# Altium schematic symbol library IC芯片.SchLib: 82 symbols
Pins are listed as number, name and electrical type; pins without a type are passive.

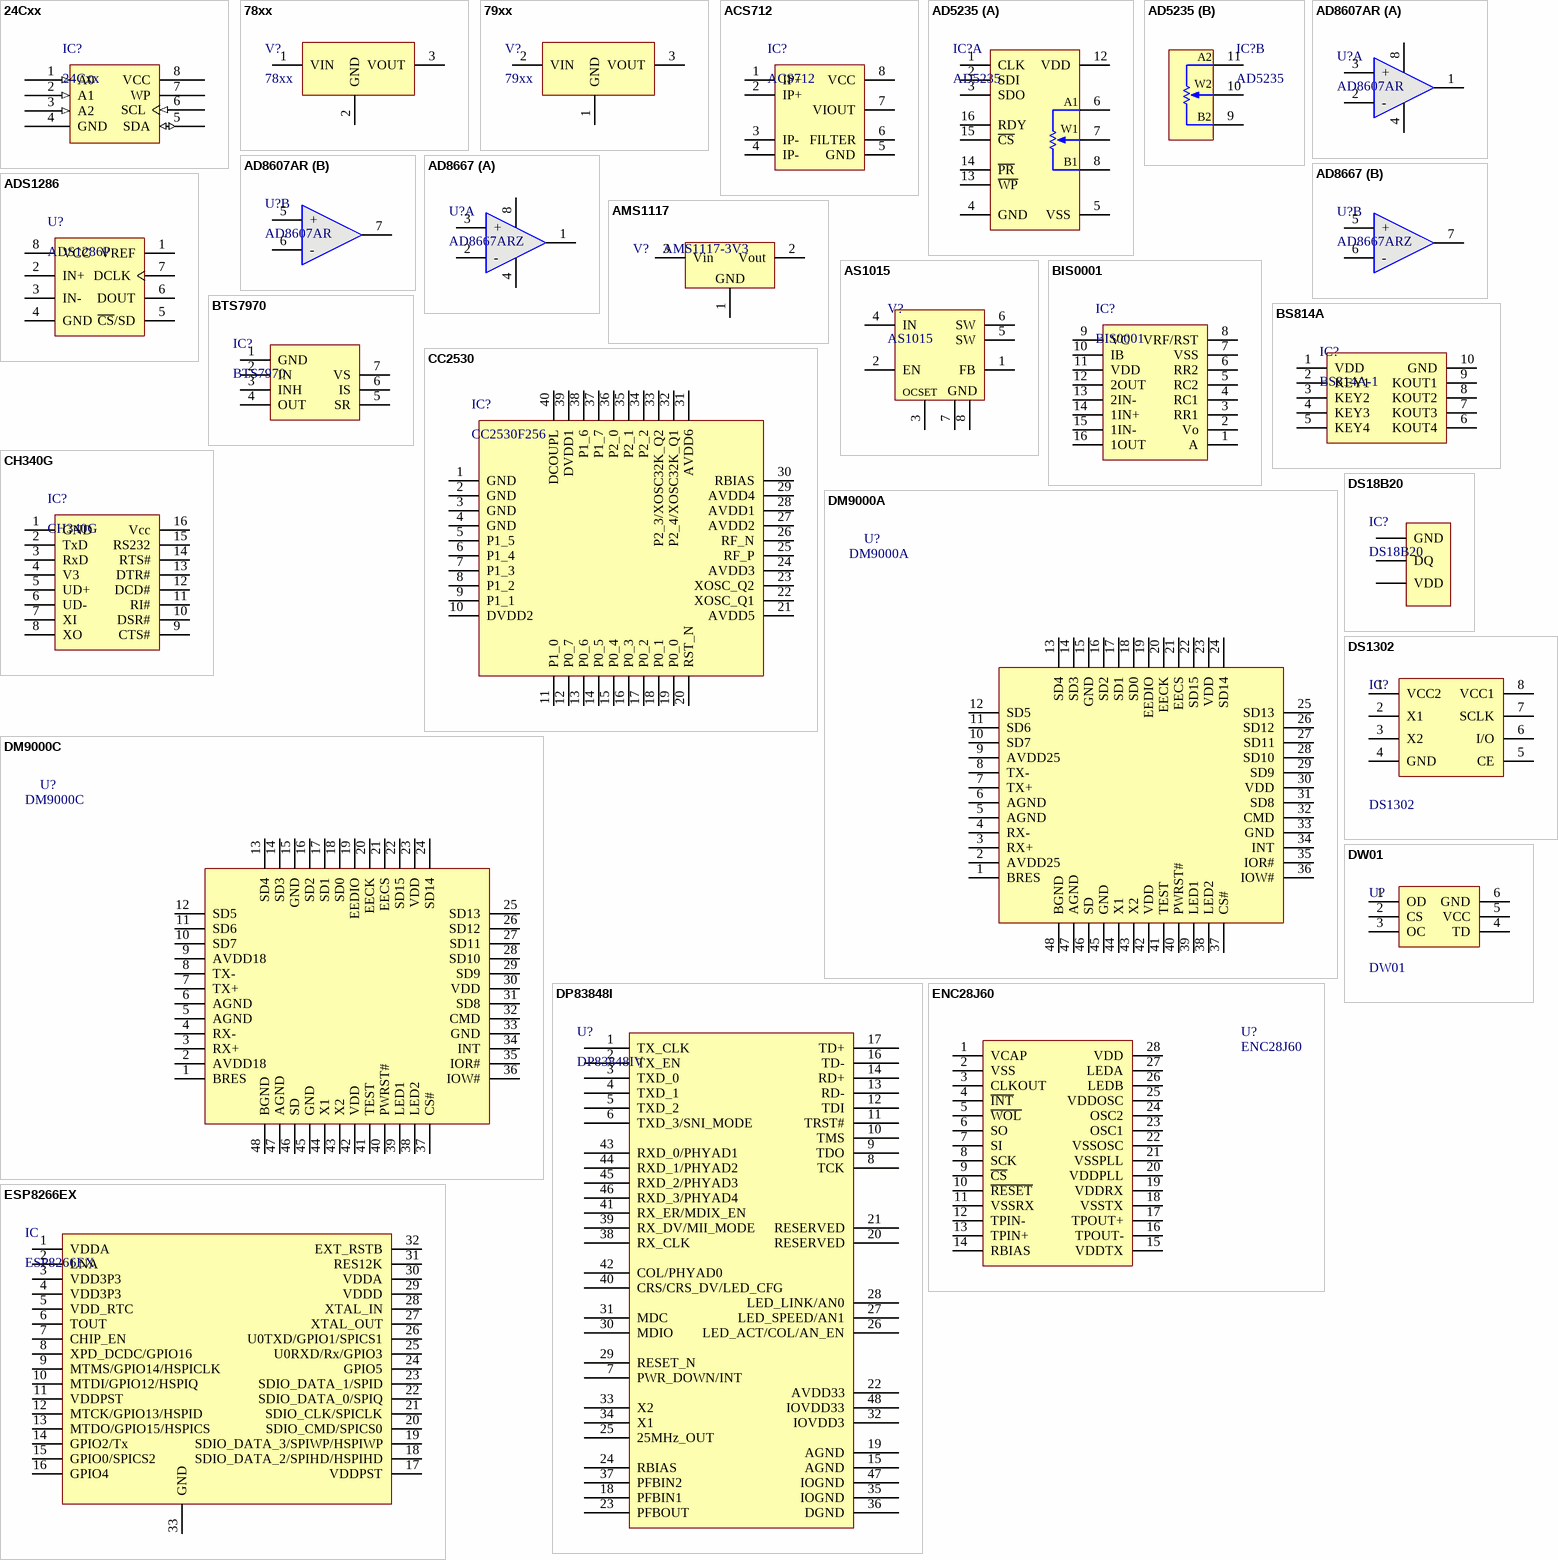
[diagram p0: symbols 24Cxx to ESP8266EX]

## 24Cxx
designator IC?
外置EEPROM; 版权归属: 源创客; BOM名称: 外置EEPROM; 学习资源: www.ooocke.com
footprint SOP8_L (5*6*1.8mm（长宽高）)
footprint SOP8_N (5*6*1.8mm（长宽高）)
footprint SOP8_M (5*6*1.8mm（长宽高）)
pins: 1 A0 (in), 2 A1 (in), 3 A2 (in), 4 GND, 5 SDA (io), 6 SCL (in), 7 WP, 8 VCC (power)

## 78xx
designator V?
线性稳压芯片; 版权归属: 源创客; BOM名称: 线性稳压芯片; 学习资源: www.ooocke.com
footprint TO252 (252晶体管)
footprint TO220A (220，3脚晶体管)
footprint TO220B (220，3脚晶体管)
pins: 1 VIN, 2 GND, 3 VOUT

## 79xx
designator V?
线性稳压芯片; 版权归属: 源创客; BOM名称: 线性稳压芯片; 学习资源: www.ooocke.com
footprint TO252 (252晶体管)
footprint TO220A (220，3脚晶体管)
footprint TO220B (220，3脚晶体管)
pins: 1 GND, 2 VIN, 3 VOUT

## ACS712
designator IC?
电流检测芯片; 版权归属: 源创客; BOM名称: 电流检测芯片; 学习资源: www.ooocke.com
footprint SOP8_N (5*6*1.8mm（长宽高）)
footprint SOP8_L (5*6*1.8mm（长宽高）)
footprint SOP8_M (5*6*1.8mm（长宽高）)
pins: 1 IP+, 2 IP+, 3 IP-, 4 IP-, 5 GND, 6 FILTER, 7 VIOUT, 8 VCC

## AD5235
designator IC?
数字电位器; 版权归属: 源创客; BOM名称: 数字电位器; 学习资源: www.ooocke.com
footprint TSSOP16_N (5*6.4*1mm（长宽高）)
footprint TSSOP16_L (5*6.4*1mm（长宽高）)
footprint TSSOP16_M (5*6.4*1mm（长宽高）)
part A pins: 1 CLK, 2 SDI, 3 SDO, 4 GND, 5 VSS, 6 A1, 7 W1, 8 B1, 12 VDD, 13 ~{WP}, 14 ~{PR}, 15 ~{CS}, 16 RDY
part B pins: 9 B2, 10 W2, 11 A2

## AD8607AR
designator U?
双运放; 版权归属: 源创客; BOM名称: 双运放; 学习资源: www.ooocke.com
footprint SOP8_N (5*6*1.8mm（长宽高）)
footprint SOP8_L (5*6*1.8mm（长宽高）)
footprint SOP8_M (5*6*1.8mm（长宽高）)
part A pins: 1 OUT1, 2 -, 3 +, 4 V- (power), 8 V+ (power)
part B pins: 5 +, 6 -, 7 OUT2

## AD8667
designator U?, comment AD8667ARZ
双运放; 版权归属: 源创客; BOM名称: 双运放; 学习资源: www.ooocke.com
footprint SOP8_N (5*6*1.8mm（长宽高）)
footprint SOP8_L (5*6*1.8mm（长宽高）)
footprint SOP8_M (5*6*1.8mm（长宽高）)
part A pins: 1 OUT1, 2 -, 3 +, 4 V- (power), 8 V+ (power)
part B pins: 5 +, 6 -, 7 OUT2

## ADS1286
designator U?, comment ADS1286P
12位数模转换芯片; 版权归属: 源创客; BOM名称: 12位数模转换芯片; 学习资源: www.ooocke.com
footprint SOP8_L (5*6*1.8mm（长宽高）)
footprint SOP8_M (5*6*1.8mm（长宽高）)
footprint SOP8_N (5*6*1.8mm（长宽高）)
footprint DIP8-300 (9.4*7.6*3.8(长宽高）)
footprint DIP8-300_MH (带底座 9.4*7.6*3.8(长宽高）)
pins: 1 VREF, 2 IN+, 3 IN-, 4 GND, 5 ~{CS}/SD, 6 DOUT, 7 DCLK, 8 VCC

## AMS1117
designator V?, comment AMS1117-3V3
三端稳压芯片; BOM名称: 稳压芯片; 版权归属: 源创客; 学习资源: www.ooocke.com
footprint SOT223_L (6.4x7x1.6mm(长宽高))
footprint SOT223_M (6.4x7x1.6mm(长宽高))
footprint SOT223_N (6.4x7x1.6mm(长宽高))
footprint SOT89_L (4.6x4.3x1.6mm(长宽高))
footprint SOT89_N (4.6x4.3x1.6mm(长宽高))
footprint SOT89_M (4.6x4.3x1.6mm(长宽高))
pins: 1 GND, 2 Vout, 3 Vin

## AS1015
designator V?
可调升压芯片; 版权归属: 源创客; BOM名称: 可调升压芯片; 学习资源: www.ooocke.com
footprint SOP8_N (5*6*1.8mm（长宽高）)
footprint SOP8_L (5*6*1.8mm（长宽高）)
footprint SOP8_M (5*6*1.8mm（长宽高）)
pins: 1 FB (power), 2 EN (power), 3 OCSET (power), 4 IN (power), 5 SW (power), 6 SW (power), 7 GND (power), 8 GND (power)

## BIS0001
designator IC?
人体红外专用芯片; 版权归属: 源创客; BOM名称: BIS0001; 学习资源: www.ooocke.com
footprint SOP16_N (10.3*6.2*1.8mm（长宽高）)
footprint SOP16_L (10.3*6.2*1.8mm（长宽高）)
footprint SOP16_M (10.3*6.2*1.8mm（长宽高）)
pins: 1 A, 2 Vo, 3 RR1, 4 RC1, 5 RC2, 6 RR2, 7 VSS, 8 VRF/RST, 9 VC, 10 IB, 11 VDD, 12 2OUT, 13 2IN-, 14 1IN+, 15 1IN-, 16 1OUT

## BS814A
designator IC?, comment BS814A-1
4键电容触摸按键芯片; 版权归属: 源创客; BOM名称: 4键电容触摸按键芯片; 学习资源: www.ooocke.com
footprint MSOP10_L (塑封体长3mm，宽3mm，脚距0.5)
footprint MSOP10_N (塑封体长3mm，宽3mm，脚距0.5)
footprint MSOP10_M (塑封体长3mm，宽3mm，脚距0.5)
pins: 1 VDD, 2 KEY1, 3 KEY2, 4 KEY3, 5 KEY4, 6 KOUT4, 7 KOUT3, 8 KOUT2, 9 KOUT1, 10 GND

## BTS7970
designator IC?
电机驱动芯片; 版权归属: 源创客; BOM名称: 电机驱动芯片; 学习资源: www.ooocke.com
footprint TO263-7A (263，7脚晶体管)
footprint TO263-7B (263，7脚晶体管)
pins: 1 GND (power), 2 IN (power), 3 INH (power), 4 OUT (power), 5 SR (power), 6 IS (power), 7 VS (power)

## CC2530
designator IC?, comment CC2530F256
ZigBee2.4G无线组网芯片; 版权归属: 源创客; BOM名称: ZigBee2.4G无线组网芯片; 学习资源: www.ooocke.com
footprint QFN40 6X6_L (40脚，体宽：6x6mm，脚距：0.5mm)
footprint QFN40 6X6_M (40脚，体宽：6x6mm，脚距：0.5mm)
footprint QFN40 6X6_N (40脚，体宽：6x6mm，脚距：0.5mm)
pins: 1 GND, 2 GND, 3 GND, 4 GND, 5 P1_5, 6 P1_4, 7 P1_3, 8 P1_2, 9 P1_1, 10 DVDD2, 11 P1_0, 12 P0_7, 13 P0_6, 14 P0_5, 15 P0_4, 16 P0_3, 17 P0_2, 18 P0_1, 19 P0_0, 20 RST_N, 21 AVDD5, 22 XOSC_Q1, 23 XOSC_Q2, 24 AVDD3, 25 RF_P, 26 RF_N, 27 AVDD2, 28 AVDD1, 29 AVDD4, 30 RBIAS, 31 AVDD6, 32 P2_4/XOSC32K_Q1, 33 P2_3/XOSC32K_Q2, 34 P2_2, 35 P2_1, 36 P2_0, 37 P1_7, 38 P1_6, 39 DVDD1, 40 DCOUPL

## CH340G
designator IC?
串口转USB; 版权归属: 源创客; BOM名称: 串口转USB; 学习资源: www.ooocke.com
footprint SOP16_L (10.3*6.2*1.8mm（长宽高）)
footprint SOP16_N (10.3*6.2*1.8mm（长宽高）)
footprint SOP16_M (10.3*6.2*1.8mm（长宽高）)
footprint DIP16-300 (19.3*7.6*3.8(长宽高）)
pins: 1 GND, 2 TxD, 3 RxD, 4 V3, 5 UD+, 6 UD-, 7 XI, 8 XO, 9 CTS#, 10 DSR#, 11 RI#, 12 DCD#, 13 DTR#, 14 RTS#, 15 RS232, 16 Vcc

## DM9000A
designator U?
网络芯片; 版权归属: 源创客; BOM名称: 网络芯片; 学习资源: www.ooocke.com
footprint LQFP48 7X7_N (48脚，体宽7x7mm，脚距0.5mm)
footprint LQFP48 7X7_L (48脚，体宽7x7mm，脚距0.5mm)
footprint LQFP48 7X7_M (48脚，体宽7x7mm，脚距0.5mm)
pins: 1 BRES, 2 AVDD25, 3 RX+, 4 RX-, 5 AGND, 6 AGND, 7 TX+, 8 TX-, 9 AVDD25, 10 SD7, 11 SD6, 12 SD5, 13 SD4, 14 SD3, 15 GND, 16 SD2, 17 SD1, 18 SD0, 19 EEDIO, 20 EECK, 21 EECS, 22 SD15, 23 VDD, 24 SD14, 25 SD13, 26 SD12, 27 SD11, 28 SD10, 29 SD9, 30 VDD, 31 SD8, 32 CMD, 33 GND, 34 INT, 35 IOR#, 36 IOW#, 37 CS#, 38 LED2, 39 LED1, 40 PWRST#, 41 TEST, 42 VDD, 43 X2, 44 X1, 45 GND, 46 SD, 47 AGND, 48 BGND

## DM9000C
designator U?
网络芯片; 版权归属: 源创客; BOM名称: 网络芯片; 学习资源: www.ooocke.com
footprint LQFP48 7X7_N (48脚，体宽7x7mm，脚距0.5mm)
footprint LQFP48 7X7_L (48脚，体宽7x7mm，脚距0.5mm)
footprint LQFP48 7X7_M (48脚，体宽7x7mm，脚距0.5mm)
pins: 1 BRES, 2 AVDD18, 3 RX+, 4 RX-, 5 AGND, 6 AGND, 7 TX+, 8 TX-, 9 AVDD18, 10 SD7, 11 SD6, 12 SD5, 13 SD4, 14 SD3, 15 GND, 16 SD2, 17 SD1, 18 SD0, 19 EEDIO, 20 EECK, 21 EECS, 22 SD15, 23 VDD, 24 SD14, 25 SD13, 26 SD12, 27 SD11, 28 SD10, 29 SD9, 30 VDD, 31 SD8, 32 CMD, 33 GND, 34 INT, 35 IOR#, 36 IOW#, 37 CS#, 38 LED2, 39 LED1, 40 PWRST#, 41 TEST, 42 VDD, 43 X2, 44 X1, 45 GND, 46 SD, 47 AGND, 48 BGND

## DP83848I
designator U?, comment DP83848IV
网络芯片; 版权归属: 源创客; BOM名称: 网络芯片; 学习资源: www.ooocke.com
footprint LQFP48 7X7_N (48脚，体宽7x7mm，脚距0.5mm)
footprint LQFP48 7X7_L (48脚，体宽7x7mm，脚距0.5mm)
footprint LQFP48 7X7_M (48脚，体宽7x7mm，脚距0.5mm)
pins: 1 TX_CLK, 2 TX_EN, 3 TXD_0, 4 TXD_1, 5 TXD_2, 6 TXD_3/SNI_MODE, 7 PWR_DOWN/INT, 8 TCK, 9 TDO, 10 TMS, 11 TRST#, 12 TDI, 13 RD-, 14 RD+, 15 AGND, 16 TD-, 17 TD+, 18 PFBIN1, 19 AGND, 20 RESERVED, 21 RESERVED, 22 AVDD33, 23 PFBOUT, 24 RBIAS, 25 25MHz_OUT, 26 LED_ACT/COL/AN_EN, 27 LED_SPEED/AN1, 28 LED_LINK/AN0, 29 RESET_N, 30 MDIO, 31 MDC, 32 IOVDD3, 33 X2, 34 X1, 35 IOGND, 36 DGND, 37 PFBIN2, 38 RX_CLK, 39 RX_DV/MII_MODE, 40 CRS/CRS_DV/LED_CFG, 41 RX_ER/MDIX_EN, 42 COL/PHYAD0, 43 RXD_0/PHYAD1, 44 RXD_1/PHYAD2, 45 RXD_2/PHYAD3, 46 RXD_3/PHYAD4, 47 IOGND, 48 IOVDD33

## DS18B20
designator IC?
数字温度计; 版权归属: 源创客; BOM名称: 数字温度计; 学习资源: www.ooocke.com
footprint TO92A (92晶体管)
footprint TO92B (92晶体管)
pins: 1 GND, 2 DQ, 3 VDD

## DS1302
designator IC?
实时时钟芯片; 版权归属: 源创客; BOM名称: 实时时钟芯片; 学习资源: www.ooocke.com
footprint SOP8_N (5*6*1.8mm（长宽高）)
footprint SOP8_L (5*6*1.8mm（长宽高）)
footprint SOP8_M (5*6*1.8mm（长宽高）)
footprint DIP8-300 (9.4*7.6*3.8(长宽高）)
pins: 1 VCC2, 2 X1, 3 X2, 4 GND, 5 CE, 6 I/O, 7 SCLK, 8 VCC1

## DW01
designator U?
锂电池过流保护IC; BOM名称: 过流保护IC; 版权归属: 源创客; 学习资源: www.ooocke.com
footprint SOT23-6L (3x1.6x1.1mm(长宽高))
footprint SOT23-6N (3x1.6x1.1mm(长宽高))
footprint SOT23-6M (3x1.6x1.1mm(长宽高))
pins: 1 OD, 2 CS, 3 OC, 4 TD, 5 VCC, 6 GND

## ENC28J60
designator U?
SPI以太网控制芯片; 版权归属: 源创客; BOM名称: SPI以太网控制芯片; 学习资源: www.ooocke.com
footprint SSOP28_N (10.2*7.8*1.9mm(长宽高）)
footprint SSOP28_L (10.2*7.8*1.9mm(长宽高）)
footprint SSOP28_M (10.2*7.8*1.9mm(长宽高）)
pins: 1 VCAP, 2 VSS, 3 CLKOUT, 4 ~{INT}, 5 ~{WOL}, 6 SO, 7 SI, 8 SCK, 9 ~{CS}, 10 ~{RESET}, 11 VSSRX, 12 TPIN-, 13 TPIN+, 14 RBIAS, 15 VDDTX, 16 TPOUT-, 17 TPOUT+, 18 VSSTX, 19 VDDRX, 20 VDDPLL, 21 VSSPLL, 22 VSSOSC, 23 OSC1, 24 OSC2, 25 VDDOSC, 26 LEDB, 27 LEDA, 28 VDD

## ESP8266EX
designator IC
WIFI-芯片; 版权归属: 源创客; BOM名称: WIFI-芯片; 学习资源: www.ooocke.com
footprint QFN32 5x5_L (32脚，长：5mm，宽：5mm，高：9.5mm)
footprint QFN32 5x5_M (32脚，长：5mm，宽：5mm，高：9.5mm)
footprint QFN32 5x5_N (32脚，长：5mm，宽：5mm，高：9.5mm)
pins: 1 VDDA, 2 LNA, 3 VDD3P3, 4 VDD3P3, 5 VDD_RTC, 6 TOUT, 7 CHIP_EN, 8 XPD_DCDC/GPIO16, 9 MTMS/GPIO14/HSPICLK, 10 MTDI/GPIO12/HSPIQ, 11 VDDPST, 12 MTCK/GPIO13/HSPID, 13 MTDO/GPIO15/HSPICS, 14 GPIO2/Tx, 15 GPIO0/SPICS2, 16 GPIO4, 17 VDDPST, 18 SDIO_DATA_2/SPIHD/HSPIHD, 19 SDIO_DATA_3/SPIWP/HSPIWP, 20 SDIO_CMD/SPICS0, 21 SDIO_CLK/SPICLK, 22 SDIO_DATA_0/SPIQ, 23 SDIO_DATA_1/SPID, 24 GPIO5, 25 U0RXD/Rx/GPIO3, 26 U0TXD/GPIO1/SPICS1, 27 XTAL_OUT, 28 XTAL_IN, 29 VDDD, 30 VDDA, 31 RES12K, 32 EXT_RSTB, 33 GND

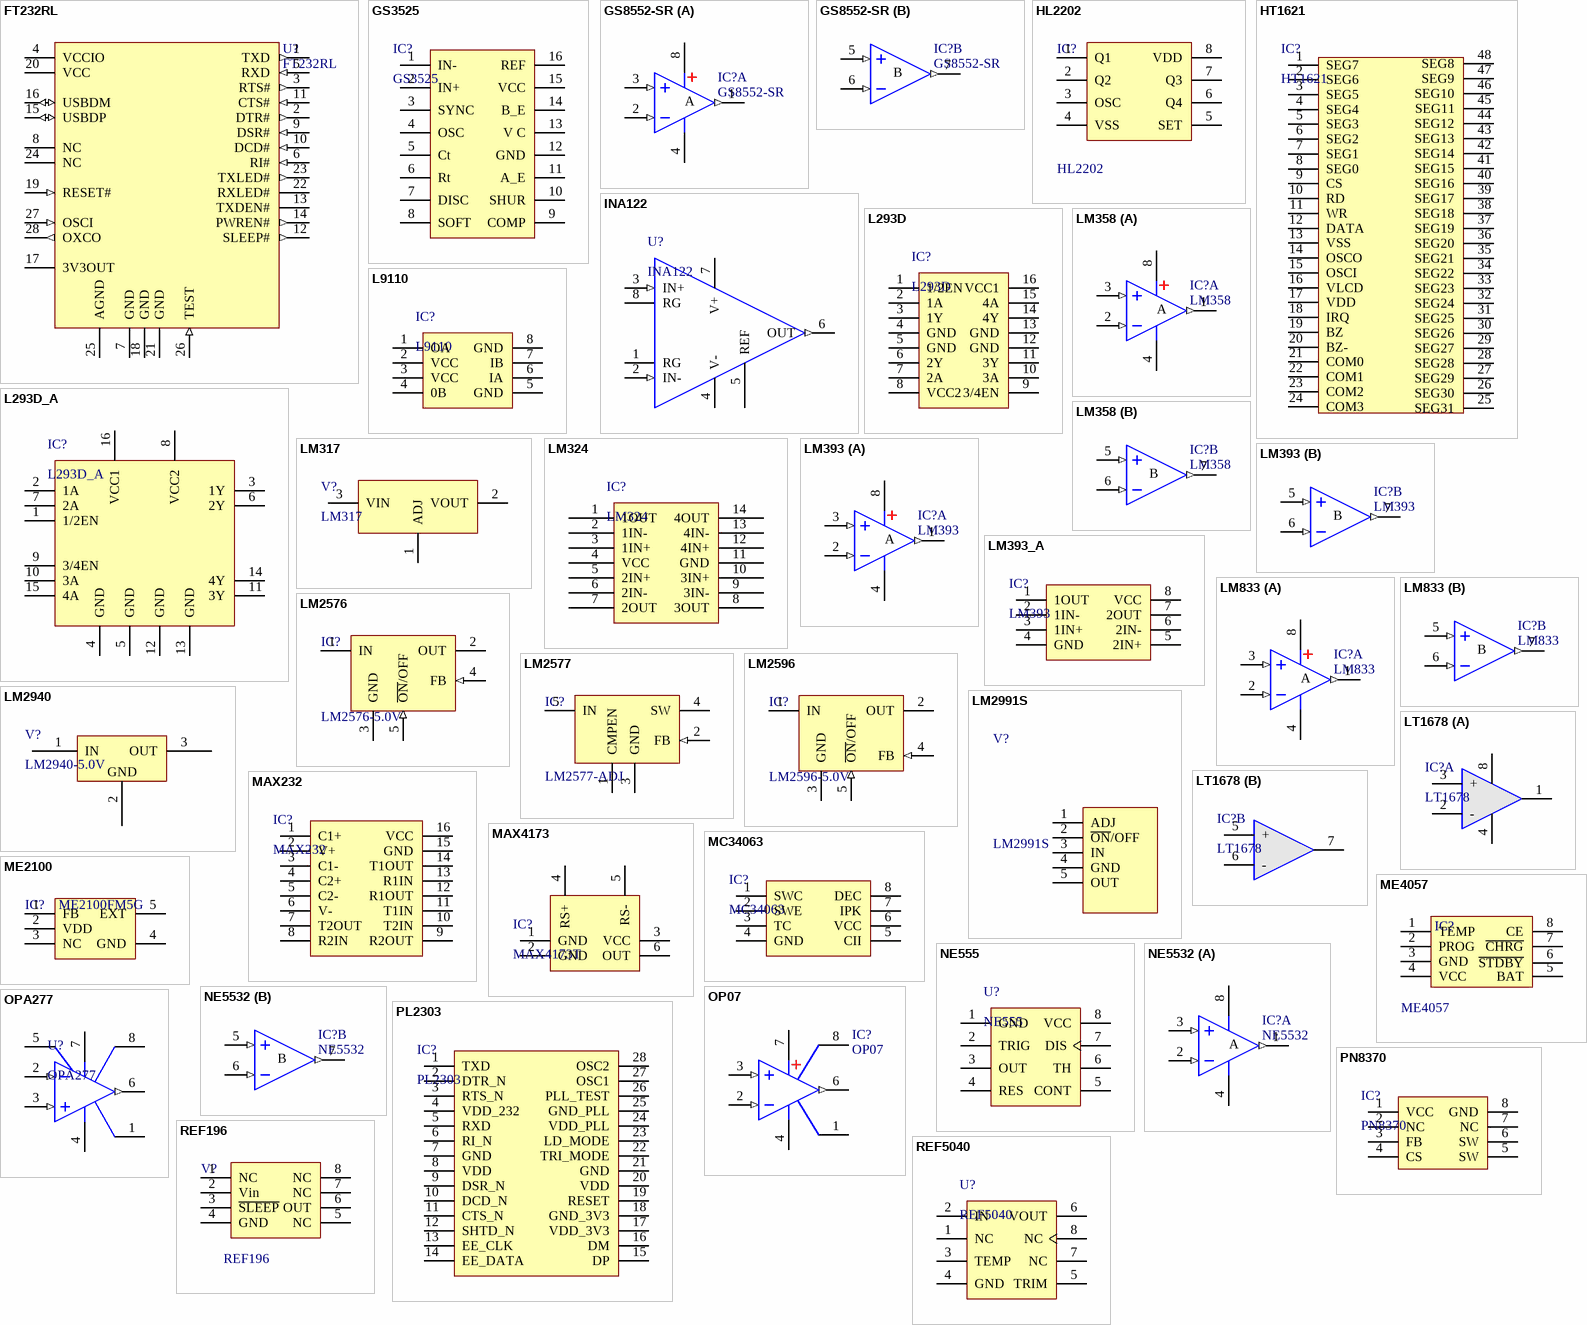
[diagram p1: symbols FT232RL to REF5040]

## FT232RL
designator U?
USB转串口; 版权归属: 源创客; BOM名称: USB转串口; 学习资源: www.ooocke.com
footprint SSOP28_N (10.2*7.8*1.9mm(长宽高）)
footprint SSOP28_L (10.2*7.8*1.9mm(长宽高）)
footprint SSOP28_M (10.2*7.8*1.9mm(长宽高）)
pins: 1 TXD (out), 2 DTR# (out), 3 RTS# (out), 4 VCCIO (power), 5 RXD (in), 6 RI# (in), 7 GND (power), 8 NC, 9 DSR# (in), 10 DCD# (in), 11 CTS# (in), 12 SLEEP# (out), 13 TXDEN# (oc), 14 PWREN# (out), 15 USBDP (io), 16 USBDM (io), 17 3V3OUT (power), 18 GND (power), 19 RESET# (in), 20 VCC (power), 21 GND (power), 22 RXLED# (oc), 23 TXLED# (out), 24 NC, 25 AGND (power), 26 TEST (in), 27 OSCI (in), 28 OXCO (out)

## GS3525
designator IC?
开关电源管理IC; BOM名称: 电源管理IC; 版权归属: 源创客; 学习资源: www.ooocke.com
footprint DIP16-300 (19.3*7.6*3.8(长宽高）)
footprint SOP16_L (10.3*6.2*1.8mm（长宽高）)
footprint SOP16_N (10.3*6.2*1.8mm（长宽高）)
footprint SOP16_M (10.3*6.2*1.8mm（长宽高）)
pins: 1 IN-, 2 IN+, 3 SYNC, 4 OSC, 5 Ct, 6 Rt, 7 DISC, 8 SOFT, 9 COMP, 10 SHUR, 11 A_E, 12 GND, 13 V C, 14 B_E, 15 VCC, 16 REF

## GS8552-SR
designator IC?
双路高精密运放; BOM名称: 双路运放; 版权归属: 源创客; 学习资源: www.ooocke.com
footprint SOP8_L (5*6*1.8mm（长宽高）)
footprint SOP8_N (5*6*1.8mm（长宽高）)
footprint SOP8_M (5*6*1.8mm（长宽高）)
footprint DIP8-300 (9.4*7.6*3.8(长宽高）)
part A pins: 1 OUT (out), 2 IN- (in), 3 IN+ (in), 4 V- (power), 8 V+ (power)
part B pins: 5 IN+ (in), 6 IN- (in), 7 OUT (out)
part A text: A
part B text: B

## HL2202
designator IC?
灯光控制芯片; 版权归属: 源创客; BOM名称: 灯光控制芯片; 学习资源: www.ooocke.com
footprint SOP8_N (5*6*1.8mm（长宽高）)
footprint SOP8_L (5*6*1.8mm（长宽高）)
footprint SOP8_M (5*6*1.8mm（长宽高）)
footprint DIP8-300 (9.4*7.6*3.8(长宽高）)
pins: 1 Q1, 2 Q2, 3 OSC, 4 VSS, 5 SET, 6 Q4, 7 Q3, 8 VDD

## HT1621
designator IC?
LCD驱动芯片; 版权归属: 源创客; BOM名称: LCD驱动芯片; 学习资源: www.ooocke.com
footprint SSOP48_N (16*10.3*2.4mm（长宽高）)
footprint SSOP48_L (16*10.3*2.4mm（长宽高）)
footprint SSOP48_M (16*10.3*2.4mm（长宽高）)
pins: 1 SEG7, 2 SEG6, 3 SEG5, 4 SEG4, 5 SEG3, 6 SEG2, 7 SEG1, 8 SEG0, 9 CS, 10 RD, 11 WR, 12 DATA, 13 VSS, 14 OSCO, 15 OSCI, 16 VLCD, 17 VDD, 18 IRQ, 19 BZ, 20 BZ-, 21 COM0, 22 COM1, 23 COM2, 24 COM3, 25 SEG31, 26 SEG30, 27 SEG29, 28 SEG28, 29 SEG27, 30 SEG26, 31 SEG25, 32 SEG24, 33 SEG23, 34 SEG22, 35 SEG21, 36 SEG20, 37 SEG19, 38 SEG18, 39 SEG17, 40 SEG16, 41 SEG15, 42 SEG14, 43 SEG13, 44 SEG12, 45 SEG11, 46 SEG10, 47 SEG9, 48 SEG8

## INA122
designator U?
微功耗仪表运放; 版权归属: 源创客; BOM名称: 微功耗仪表运放; 学习资源: www.ooocke.com
footprint SOP8_L (5*6*1.8mm（长宽高）)
footprint SOP8_M (5*6*1.8mm（长宽高）)
footprint SOP8_N (5*6*1.8mm（长宽高）)
footprint DIP8-300 (9.4*7.6*3.8(长宽高）)
footprint DIP8-300_MH (带底座 9.4*7.6*3.8(长宽高）)
pins: 1 RG, 2 IN- (in), 3 IN+ (in), 4 V-, 5 REF, 6 OUT (out), 7 V+, 8 RG

## L293D
designator IC?
电机驱动H桥; 版权归属: 源创客; BOM名称: 电机驱动H桥; 学习资源: www.ooocke.com
footprint DIP16-300 (19.3*7.6*3.8(长宽高）)
footprint DIP16-300_MH (带底座 19.3*7.6*3.8(长宽高）)
pins: 1 1/2EN, 2 1A, 3 1Y, 4 GND, 5 GND, 6 2Y, 7 2A, 8 VCC2, 9 3/4EN, 10 3A, 11 3Y, 12 GND, 13 GND, 14 4Y, 15 4A, 16 VCC1

## L293D_A
designator IC?
电机驱动H桥; 版权归属: 源创客; BOM名称: 电机驱动H桥; 学习资源: www.ooocke.com
footprint DIP16-300 (19.3*7.6*3.8(长宽高）)
footprint DIP16-300_MH (带底座 19.3*7.6*3.8(长宽高）)
pins: 1 1/2EN, 2 1A, 3 1Y, 4 GND, 5 GND, 6 2Y, 7 2A, 8 VCC2, 9 3/4EN, 10 3A, 11 3Y, 12 GND, 13 GND, 14 4Y, 15 4A, 16 VCC1

## L9110
designator IC?
直流电机控制芯片; 版权归属: 源创客; BOM名称: 直流电机控制芯片; 学习资源: www.ooocke.com
footprint DIP8-300 (9.4*7.6*3.8(长宽高）)
footprint SOP8_L (5*6*1.8mm（长宽高）)
footprint SOP8_N (5*6*1.8mm（长宽高）)
footprint SOP8_M (5*6*1.8mm（长宽高）)
pins: 1 OA, 2 VCC, 3 VCC, 4 0B, 5 GND, 6 IA, 7 IB, 8 GND

## LM317
designator V?
可调线性稳压芯片; 版权归属: 源创客; BOM名称: 可调线性稳压芯片; 学习资源: www.ooocke.com
footprint TO252 (252晶体管)
footprint TO220A (220，3脚晶体管)
footprint TO220B (220，3脚晶体管)
pins: 1 ADJ, 2 VOUT, 3 VIN

## LM324
designator IC?
四通道通用型集成运算放大器
footprint SOP14_L (8.7*6.2*1.8mm（长宽高）)
footprint SOP14_M (8.7*6.2*1.8mm（长宽高）)
footprint SOP14_N (8.7*6.2*1.8mm（长宽高）)
pins: 1 1OUT, 2 1IN-, 3 1IN+, 4 VCC, 5 2IN+, 6 2IN-, 7 2OUT, 8 3OUT, 9 3IN-, 10 3IN+, 11 GND, 12 4IN+, 13 4IN-, 14 4OUT

## LM358
designator IC?
双路运放; 版权归属: 源创客; BOM名称: 双路运放; 学习资源: www.ooocke.com
footprint SOP8_L (5*6*1.8mm（长宽高）)
footprint SOP8_N (5*6*1.8mm（长宽高）)
footprint SOP8_M (5*6*1.8mm（长宽高）)
footprint DIP8-300 (9.4*7.6*3.8(长宽高）)
part A pins: 1 OUT (out), 2 IN- (in), 3 IN+ (in), 4 V- (power), 8 V+ (power)
part B pins: 5 IN+ (in), 6 IN- (in), 7 OUT (out)
part A text: A
part B text: B

## LM393
designator IC?
双路电压比较; 版权归属: 源创客; BOM名称: 双路电压比较; 学习资源: www.ooocke.com
footprint SOP8_L (5*6*1.8mm（长宽高）)
footprint SOP8_N (5*6*1.8mm（长宽高）)
footprint SOP8_M (5*6*1.8mm（长宽高）)
footprint DIP8-300 (9.4*7.6*3.8(长宽高）)
part A pins: 1 OUT (out), 2 IN- (in), 3 IN+ (in), 4 V- (power), 8 V+ (power)
part B pins: 5 IN+ (in), 6 IN- (in), 7 OUT (out)
part A text: A
part B text: B

## LM393_A
designator IC?, comment LM393
双路电压比较; 版权归属: 源创客; BOM名称: 双路电压比较; 学习资源: www.ooocke.com
footprint DIP8-300 (9.4*7.6*3.8(长宽高）)
footprint SOP8_L (5*6*1.8mm（长宽高）)
footprint SOP8_N (5*6*1.8mm（长宽高）)
footprint SOP8_M (5*6*1.8mm（长宽高）)
pins: 1 1OUT, 2 1IN-, 3 1IN+, 4 GND, 5 2IN+, 6 2IN-, 7 2OUT, 8 VCC

## LM833
designator IC?
双路运放; 版权归属: 源创客; BOM名称: 双路运放; 学习资源: www.ooocke.com
footprint SOP8_L (5*6*1.8mm（长宽高）)
footprint SOP8_N (5*6*1.8mm（长宽高）)
footprint SOP8_M (5*6*1.8mm（长宽高）)
footprint DIP8-300 (9.4*7.6*3.8(长宽高）)
part A pins: 1 OUT (out), 2 IN- (in), 3 IN+ (in), 4 V- (power), 8 V+ (power)
part B pins: 5 IN+ (in), 6 IN- (in), 7 OUT (out)
part A text: A
part B text: B

## LM2576
designator IC?, comment LM2576-5.0V
DC降压芯片; 版权归属: 源创客; BOM名称: DC降压芯片; 学习资源: www.ooocke.com
footprint TO220-5A (220，5脚晶体管)
footprint TO220-5B (220，5脚晶体管)
footprint TO220-5C (220，5脚晶体管)
footprint TO263-5A (263，5脚晶体管)
footprint TO263-5B (263，5脚晶体管)
pins: 1 IN (power), 2 OUT (power), 3 GND (power), 4 FB (in), 5 ~{ON}/OFF (in)

## LM2577
designator IC?, comment LM2577-ADJ
DC升压芯片; 版权归属: 源创客; BOM名称: DC升压芯片; 学习资源: www.ooocke.com
footprint TO220-5A (220，5脚晶体管)
footprint TO220-5B (220，5脚晶体管)
footprint TO220-5C (220，5脚晶体管)
footprint TO263-5A (263，5脚晶体管)
footprint TO263-5B (263，5脚晶体管)
pins: 1 CMPEN, 2 FB (in), 3 GND (power), 4 SW (power), 5 IN (power)

## LM2596
designator IC?, comment LM2596-5.0V
DC降压芯片; BOM名称: DC稳压芯片; 版权归属: 源创客; 学习资源: www.ooocke.com
footprint TO220-5A (220，5脚晶体管)
footprint TO220-5B (220，5脚晶体管)
footprint TO220-5C (220，5脚晶体管)
footprint TO263-5A (263，5脚晶体管)
footprint TO263-5B (263，5脚晶体管)
pins: 1 IN (power), 2 OUT (power), 3 GND (power), 4 FB (in), 5 ~{ON}/OFF (in)

## LM2940
designator V?, comment LM2940-5.0V
5V稳压芯片; 版权归属: 源创客; BOM名称: 5V稳压芯片; 学习资源: www.ooocke.com
footprint TO220A (220，3脚晶体管)
footprint TO220B (220，3脚晶体管)
pins: 1 IN (power), 2 GND (power), 3 OUT (power)

## LM2991S
designator V?
可调稳压芯片; 版权归属: 源创客; BOM名称: 可调稳压芯片; 学习资源: www.ooocke.com
footprint TO220-5A (220，5脚晶体管)
footprint TO220-5B (220，5脚晶体管)
footprint TO220-5C (220，5脚晶体管)
footprint TO263-5A (263，5脚晶体管)
footprint TO263-5B (263，5脚晶体管)
pins: 1 ADJ, 2 ~{ON}/OFF, 3 IN, 4 GND, 5 OUT

## LT1678
designator IC?
双运放; 版权归属: 源创客; BOM名称: 双运放; 学习资源: www.ooocke.com
footprint SOP8_N (5*6*1.8mm（长宽高）)
footprint SOP8_L (5*6*1.8mm（长宽高）)
footprint SOP8_M (5*6*1.8mm（长宽高）)
part A pins: 1 OUT1, 2 -, 3 +, 4 V- (power), 8 V+ (power)
part B pins: 5 +, 6 -, 7 OUT2

## MAX232
designator IC?
版权归属: 源创客; BOM名称: MAX232; 学习资源: www.ooocke.com
footprint DIP16-300 (19.3*7.6*3.8(长宽高）)
footprint SOP16_L (10.3*6.2*1.8mm（长宽高）)
footprint SOP16_N (10.3*6.2*1.8mm（长宽高）)
footprint SOP16_M (10.3*6.2*1.8mm（长宽高）)
pins: 1 C1+, 2 V+, 3 C1-, 4 C2+, 5 C2-, 6 V-, 7 T2OUT, 8 R2IN, 9 R2OUT, 10 T2IN, 11 T1IN, 12 R1OUT, 13 R1IN, 14 T1OUT, 15 GND, 16 VCC

## MAX4173
designator IC?, comment MAX4173T
高端电流检测; 版权归属: 源创客; BOM名称: 高端电流检测; 学习资源: www.ooocke.com
footprint SOT23-6N (3x1.6x1.1mm(长宽高))
footprint SOT23-6L (3x1.6x1.1mm(长宽高))
footprint SOT23-6M (3x1.6x1.1mm(长宽高))
pins: 1 GND, 2 GND, 3 VCC, 4 RS+, 5 RS-, 6 OUT

## MC34063
designator IC?
DC升降压芯片; 版权归属: 源创客; BOM名称: DC升降压芯片; 学习资源: www.ooocke.com
footprint SOP8_L (5*6*1.8mm（长宽高）)
footprint SOP8_N (5*6*1.8mm（长宽高）)
footprint SOP8_M (5*6*1.8mm（长宽高）)
footprint DIP8-300 (9.4*7.6*3.8(长宽高）)
pins: 1 SWC, 2 SWE, 3 TC, 4 GND, 5 CII, 6 VCC, 7 IPK, 8 DEC

## ME2100
designator IC?, comment ME2100FM5G
可调升压芯片; 版权归属: 源创客; BOM名称: 可调升压芯片; 学习资源: www.ooocke.com
footprint SOT23-5N (3x1.6x1.1mm(长宽高))
footprint SOT23-5L (3x1.6x1.1mm(长宽高))
footprint SOT23-5M (3x1.6x1.1mm(长宽高))
pins: 1 FB, 2 VDD, 3 NC, 4 GND, 5 EXT

## ME4057
designator IC?
锂电池充电管理IC; BOM名称: 充电管理IC; 版权归属: 源创客; 学习资源: www.ooocke.com
footprint SOP8_N (5*6*1.8mm（长宽高）)
footprint SOP8_L (5*6*1.8mm（长宽高）)
footprint SOP8_M (5*6*1.8mm（长宽高）)
pins: 1 TEMP, 2 PROG, 3 GND, 4 VCC, 5 BAT, 6 ~{STDBY}, 7 ~{CHRG}, 8 CE

## NE555
designator U?
单路时基芯片; 版权归属: 源创客; BOM名称: 单路时基芯片; 学习资源: www.ooocke.com
footprint SOP8_L (5*6*1.8mm（长宽高）)
footprint SOP8_M (5*6*1.8mm（长宽高）)
footprint SOP8_N (5*6*1.8mm（长宽高）)
footprint DIP8-300 (9.4*7.6*3.8(长宽高）)
footprint DIP8-300_MH (带底座 9.4*7.6*3.8(长宽高）)
pins: 1 GND, 2 TRIG, 3 OUT, 4 RES, 5 CONT, 6 TH, 7 DIS, 8 VCC

## NE5532
designator IC?
双路低噪声音频运放; 版权归属: 源创客; BOM名称: 双路低噪声音频运放; 学习资源: www.ooocke.com
footprint SOP8_L (5*6*1.8mm（长宽高）)
footprint SOP8_N (5*6*1.8mm（长宽高）)
footprint SOP8_M (5*6*1.8mm（长宽高）)
footprint DIP8-300 (9.4*7.6*3.8(长宽高）)
part A pins: 1 OUT (out), 2 IN- (in), 3 IN+ (in), 4 V- (power), 8 V+ (power)
part B pins: 5 IN+ (in), 6 IN- (in), 7 OUT (out)
part A text: A
part B text: B

## OP07
designator IC?
单路精密运放; 版权归属: 源创客; BOM名称: 单路精密运放; 学习资源: www.ooocke.com
footprint SOP8_L (5*6*1.8mm（长宽高）)
footprint SOP8_N (5*6*1.8mm（长宽高）)
footprint SOP8_M (5*6*1.8mm（长宽高）)
footprint DIP8-300 (9.4*7.6*3.8(长宽高）)
pins: 1, 2 IN- (in), 3 IN+ (in), 4 V- (power), 6 OUT (out), 7 V+ (power), 8

## OPA277
designator U?
双电源高精度运放; 版权归属: 源创客; BOM名称: 双电源高精度运放; 学习资源: www.ooocke.com
footprint SOP8_N (5*6*1.8mm（长宽高）)
footprint SOP8_L (5*6*1.8mm（长宽高）)
footprint SOP8_M (5*6*1.8mm（长宽高）)
pins: 1, 2 IN- (in), 3 IN+ (in), 4 V- (power), 5 NC (power), 6 OS NUL (out), 7, 8

## PL2303
designator IC?
USB转RS232; 版权归属: 源创客; BOM名称: USB转RS232; 学习资源: www.ooocke.com
footprint SSOP28_N (10.2*7.8*1.9mm(长宽高）)
footprint SSOP28_L (10.2*7.8*1.9mm(长宽高）)
footprint SSOP28_M (10.2*7.8*1.9mm(长宽高）)
pins: 1 TXD, 2 DTR_N, 3 RTS_N, 4 VDD_232, 5 RXD, 6 RI_N, 7 GND, 8 VDD, 9 DSR_N, 10 DCD_N, 11 CTS_N, 12 SHTD_N, 13 EE_CLK, 14 EE_DATA, 15 DP, 16 DM, 17 VDD_3V3, 18 GND_3V3, 19 RESET, 20 VDD, 21 GND, 22 TRI_MODE, 23 LD_MODE, 24 VDD_PLL, 25 GND_PLL, 26 PLL_TEST, 27 OSC1, 28 OSC2

## PN8370
designator IC?
电源管理IC; 版权归属: 源创客; BOM名称: 电源管理IC; 学习资源: www.ooocke.com
footprint SOP8_N (5*6*1.8mm（长宽高）)
footprint SOP8_M (5*6*1.8mm（长宽高）)
footprint SOP8_L (5*6*1.8mm（长宽高）)
pins: 1 VCC, 2 NC, 3 FB, 4 CS, 5 SW, 6 SW, 7 NC, 8 GND

## REF196
designator V?
3V3基准电压源; 版权归属: 源创客; BOM名称: 3V3基准电压; 学习资源: www.ooocke.com
footprint SOP8_L (5*6*1.8mm（长宽高）)
footprint SOP8_N (5*6*1.8mm（长宽高）)
footprint SOP8_M (5*6*1.8mm（长宽高）)
pins: 1 NC, 2 Vin, 3 ~{SLEEP}, 4 GND, 5 NC, 6 OUT, 7 NC, 8 NC

## REF5040
designator U?
高精度电压基准; 版权归属: 源创客; BOM名称: 高精度电压基准; 学习资源: www.ooocke.com
footprint SOP8_L (5*6*1.8mm（长宽高）)
footprint SOP8_M (5*6*1.8mm（长宽高）)
footprint SOP8_N (5*6*1.8mm（长宽高）)
footprint DIP8-300 (9.4*7.6*3.8(长宽高）)
footprint DIP8-300_MH (带底座 9.4*7.6*3.8(长宽高）)
pins: 1 NC, 2 IN, 3 TEMP, 4 GND, 5 TRIM, 6 VOUT, 7 NC, 8 NC

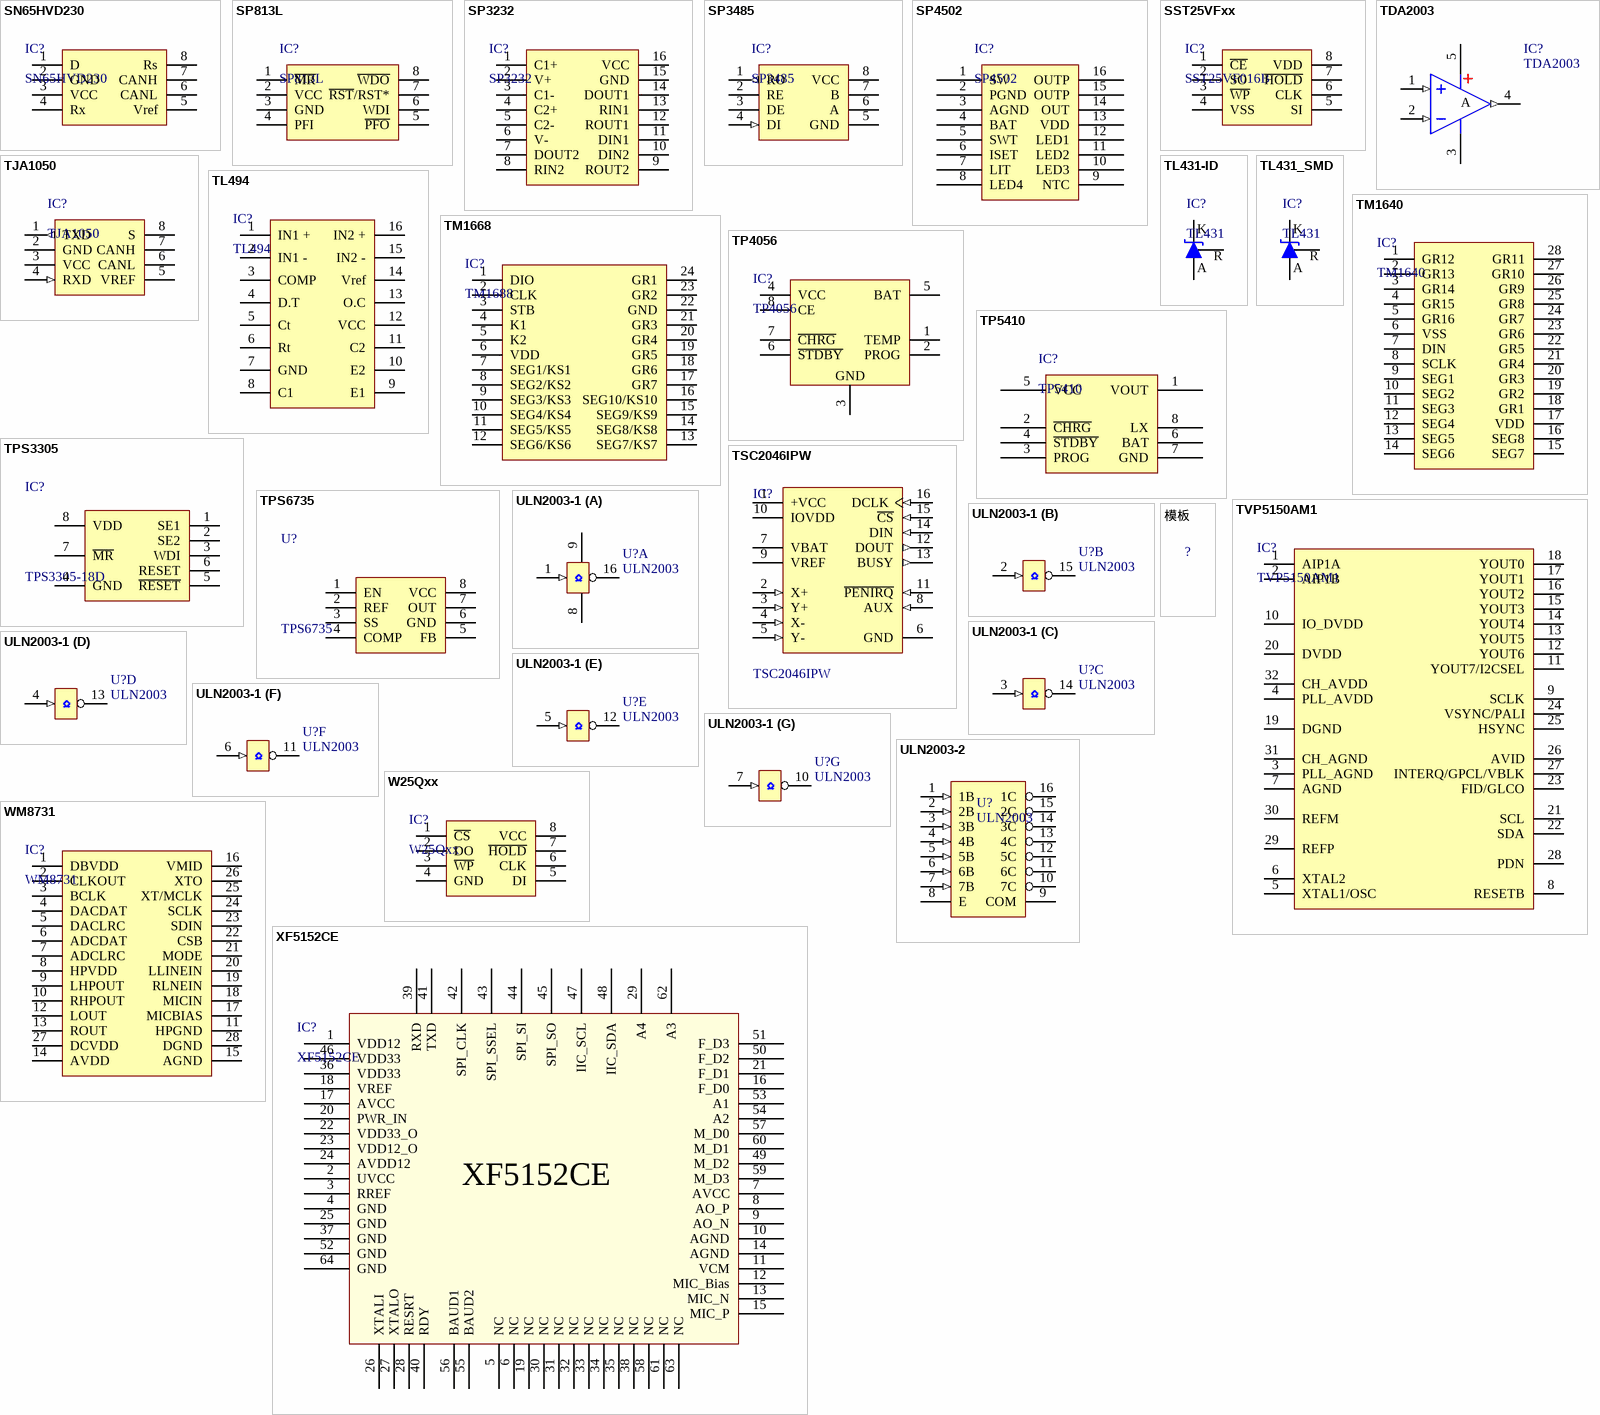
[diagram p2: symbols SN65HVD230 to 模板]

## SN65HVD230
designator IC?
CAN芯片; 版权归属: 源创客; BOM名称: CAN芯片; 学习资源: www.ooocke.com
footprint SOP8_N (5*6*1.8mm（长宽高）)
footprint SOP8_L (5*6*1.8mm（长宽高）)
footprint SOP8_M (5*6*1.8mm（长宽高）)
pins: 1 D, 2 GND, 3 VCC, 4 Rx, 5 Vref, 6 CANL, 7 CANH, 8 Rs

## SP813L
designator IC?
处理器监控芯片; 版权归属: 源创客; BOM名称: 处理器监控芯片; 学习资源: www.ooocke.com
footprint SOP8_L (5*6*1.8mm（长宽高）)
footprint SOP8_N (5*6*1.8mm（长宽高）)
footprint SOP8_M (5*6*1.8mm（长宽高）)
pins: 1 ~{MR}, 2 VCC, 3 GND, 4 PFI, 5 ~{PFO}, 6 WDI, 7 ~{RST}/RST*, 8 ~{WDO}

## SP3232
designator IC?
RS232通讯芯片; 版权归属: 源创客; BOM名称: RS232通讯芯片; 学习资源: www.ooocke.com
footprint DIP16-300 (19.3*7.6*3.8(长宽高）)
footprint SOP16_L (10.3*6.2*1.8mm（长宽高）)
footprint SOP16_N (10.3*6.2*1.8mm（长宽高）)
footprint SOP16_M (10.3*6.2*1.8mm（长宽高）)
footprint TSSOP16_L (5*6.4*1mm（长宽高）)
footprint TSSOP16_M (5*6.4*1mm（长宽高）)
footprint TSSOP16_N (5*6.4*1mm（长宽高）)
pins: 1 C1+, 2 V+, 3 C1-, 4 C2+, 5 C2-, 6 V-, 7 DOUT2, 8 RIN2, 9 ROUT2, 10 DIN2, 11 DIN1, 12 ROUT1, 13 RIN1, 14 DOUT1, 15 GND, 16 VCC

## SP3485
designator IC?
RS485总线收发芯片; 版权归属: 源创客; BOM名称: RS485总线收发芯片; 学习资源: www.ooocke.com
footprint SOP8_L (5*6*1.8mm（长宽高）)
footprint SOP8_N (5*6*1.8mm（长宽高）)
footprint SOP8_M (5*6*1.8mm（长宽高）)
pins: 1 RO (out), 2 RE, 3 DE, 4 DI (in), 5 GND, 6 A, 7 B, 8 VCC

## SP4502
designator IC?
同步充放电移动电源
footprint SOP16_L (10.3*6.2*1.8mm（长宽高）)
footprint SOP16_M (10.3*6.2*1.8mm（长宽高）)
footprint SOP16_N (10.3*6.2*1.8mm（长宽高）)
pins: 1 SW, 2 PGND, 3 AGND, 4 BAT, 5 SWT, 6 ISET, 7 LIT, 8 LED4, 9 NTC, 10 LED3, 11 LED2, 12 LED1, 13 VDD, 14 OUT, 15 OUTP, 16 OUTP

## SST25VFxx
designator IC?, comment SST25VF016B
外置Flash; 版权归属: 源创客; BOM名称: 外置Flash; 学习资源: www.ooocke.com
footprint SOP8W_N (5.3*8.3*1.8mm（长宽高）)
footprint SOP8W_L (5.3*8.3*1.8mm（长宽高）)
footprint SOP8W_M (5.3*8.3*1.8mm（长宽高）)
pins: 1 ~{CE}, 2 SO, 3 ~{WP}, 4 VSS, 5 SI, 6 CLK, 7 ~{HOLD}, 8 VDD

## TDA2003
designator IC?
单路音频功放; 版权归属: 源创客; BOM名称: 单路音频功放; 学习资源: www.ooocke.com
footprint SOP8_L (5*6*1.8mm（长宽高）)
footprint SOP8_N (5*6*1.8mm（长宽高）)
footprint SOP8_M (5*6*1.8mm（长宽高）)
footprint DIP8-300 (9.4*7.6*3.8(长宽高）)
pins: 1 IN+ (in), 2 IN- (in), 3 V- (power), 4 OUT (out), 5 V+ (power)
text: A

## TJA1050
designator IC?
CAN总线收发芯片; 版权归属: 源创客; BOM名称: CAN总线收发芯片; 学习资源: www.ooocke.com
footprint SOP8_L (5*6*1.8mm（长宽高）)
footprint SOP8_N (5*6*1.8mm（长宽高）)
footprint SOP8_M (5*6*1.8mm（长宽高）)
pins: 1 TXD (out), 2 GND, 3 VCC, 4 RXD (in), 5 VREF, 6 CANL, 7 CANH, 8 S

## TL431-ID
designator IC?, comment TL431
可调基准稳压芯片; 版权归属: 源创客; BOM名称: 可调基准稳压芯片; 学习资源: www.ooocke.com
footprint TO92A (92晶体管)
footprint TO92B (92晶体管)
pins: 1 R, 2 A, 3 K

## TL431_SMD
designator IC?, comment TL431
可调基准稳压芯片; 版权归属: 源创客; BOM名称: 可调基准稳压芯片; 学习资源: www.ooocke.com
footprint SOT23-3N (3x1.3x1mm(长宽高))
footprint SOT23-3L (3x1.3x1mm(长宽高))
footprint SOT23-3M (3x1.3x1mm(长宽高))
pins: 1 R, 2 K, 3 A

## TL494
designator IC?
电源管理IC; 版权归属: 源创客; BOM名称: 电源管理IC; 学习资源: www.ooocke.com
footprint DIP16-300 (19.3*7.6*3.8(长宽高）)
footprint SOP16_L (10.3*6.2*1.8mm（长宽高）)
footprint SOP16_N (10.3*6.2*1.8mm（长宽高）)
footprint SOP16_M (10.3*6.2*1.8mm（长宽高）)
pins: 1 IN1 +, 2 IN1 -, 3 COMP, 4 D.T, 5 Ct, 6 Rt, 7 GND, 8 C1, 9 E1, 10 E2, 11 C2, 12 VCC, 13 O.C, 14 Vref, 15 IN2 -, 16 IN2 +

## TM1640
designator IC?
LED驱动控制芯片; 版权归属: 源创客; BOM名称: LED驱动控制芯片; 学习资源: www.ooocke.com
footprint SOP28_L (17.9*10.6*2.6mm（长宽高）)
footprint SOP28_M (17.9*10.6*2.6mm（长宽高）)
footprint SOP28_N (17.9*10.6*2.6mm（长宽高）)
pins: 1 GR12, 2 GR13, 3 GR14, 4 GR15, 5 GR16, 6 VSS, 7 DIN, 8 SCLK, 9 SEG1, 10 SEG2, 11 SEG3, 12 SEG4, 13 SEG5, 14 SEG6, 15 SEG7, 16 SEG8, 17 VDD, 18 GR1, 19 GR2, 20 GR3, 21 GR4, 22 GR5, 23 GR6, 24 GR7, 25 GR8, 26 GR9, 27 GR10, 28 GR11

## TM1668
designator IC?, comment TM1688
数码管按键扫描芯片; BOM名称: 数码管按键芯片; 版权归属: 源创客; 学习资源: www.ooocke.com
footprint SOP24_N (15.4*10.6*2.6mm（长宽高）)
footprint SOP24_L (15.4*10.6*2.6mm（长宽高）)
footprint SOP24_M (15.4*10.6*2.6mm（长宽高）)
pins: 1 DIO, 2 CLK, 3 STB, 4 K1, 5 K2, 6 VDD, 7 SEG1/KS1, 8 SEG2/KS2, 9 SEG3/KS3, 10 SEG4/KS4, 11 SEG5/KS5, 12 SEG6/KS6, 13 SEG7/KS7, 14 SEG8/KS8, 15 SEG9/KS9, 16 SEG10/KS10, 17 GR7, 18 GR6, 19 GR5, 20 GR4, 21 GR3, 22 GND, 23 GR2, 24 GR1

## TP4056
designator IC?
锂电池充电管理; 版权归属: 源创客; BOM名称: 锂电池充电管理; 学习资源: www.ooocke.com
footprint SOP8_N (5*6*1.8mm（长宽高）)
footprint SOP8_L (5*6*1.8mm（长宽高）)
footprint SOP8_M (5*6*1.8mm（长宽高）)
pins: 1 TEMP, 2 PROG, 3 GND, 4 VCC, 5 BAT, 6 ~{STDBY}, 7 ~{CHRG}, 8 CE

## TP5410
designator IC?
1A锂电池充电和5V/1A升压控制芯片
footprint SOP8-ESOP-L (4.0*5.2*1.75mm（长宽高）)
footprint SOP8-ESOP_M (4.0*5.2*1.75mm（长宽高）)
pins: 1 VOUT, 2 ~{CHRG}, 3 PROG, 4 ~{STDBY}, 5 VCC, 6 BAT, 7 GND, 8 LX

## TPS3305
designator IC?, comment TPS3305-18D
DSP电源管理; 版权归属: 源创客; BOM名称: DSP电源管理; 学习资源: www.ooocke.com
footprint SSOP8_N (3*6.4*1.2mm（长宽高）)
footprint SSOP8_L (3*6.4*1.2mm（长宽高）)
footprint SSOP8_M (3*6.4*1.2mm（长宽高）)
pins: 1 SE1, 2 SE2, 3 WDI, 4 GND, 5 ~{RESET}, 6 RESET, 7 ~{MR}, 8 VDD

## TPS6735
designator U?
负电压转换芯片; BOM名称: 负电压芯片; 版权归属: 源创客; 学习资源: www.ooocke.com
footprint SOP8_N (5*6*1.8mm（长宽高）)
footprint SOP8_L (5*6*1.8mm（长宽高）)
footprint SOP8_M (5*6*1.8mm（长宽高）)
pins: 1 EN, 2 REF, 3 SS, 4 COMP, 5 FB, 6 GND, 7 OUT, 8 VCC

## TSC2046IPW
designator IC?
显示屏触摸驱动芯片; BOM名称: 触摸驱动芯片; 版权归属: 源创客; 学习资源: www.ooocke.com
footprint TSSOP16_N (5*6.4*1mm（长宽高）)
footprint TSSOP16_L (5*6.4*1mm（长宽高）)
footprint TSSOP16_M (5*6.4*1mm（长宽高）)
pins: 1 +VCC (power), 2 X+ (in), 3 Y+ (in), 4 X- (in), 5 Y- (in), 6 GND (power), 7 VBAT (power), 8 AUX (in), 9 VREF (power), 10 IOVDD (power), 11 ~{PENIRQ} (in), 12 DOUT (out), 13 BUSY (out), 14 DIN (in), 15 ~{CS} (in), 16 DCLK (in)

## TVP5150AM1
designator IC?
视频解码芯片; 版权归属: 源创客; BOM名称: 视频解码芯片; 学习资源: www.ooocke.com
footprint TQFP32 5x5_N (32脚，体宽：5x5mm, 脚距：0.5mm)
footprint TQFP32 5x5_L (32脚，体宽：5x5mm, 脚距：0.5mm)
footprint TQFP32 5x5_M (32脚，体宽：5x5mm, 脚距：0.5mm)
pins: 1 AIP1A, 2 AIP1B, 3 PLL_AGND, 4 PLL_AVDD, 5 XTAL1/OSC, 6 XTAL2, 7 AGND, 8 RESETB, 9 SCLK, 10 IO_DVDD, 11 YOUT7/I2CSEL, 12 YOUT6, 13 YOUT5, 14 YOUT4, 15 YOUT3, 16 YOUT2, 17 YOUT1, 18 YOUT0, 19 DGND, 20 DVDD, 21 SCL, 22 SDA, 23 FID/GLCO, 24 VSYNC/PALI, 25 HSYNC, 26 AVID, 27 INTERQ/GPCL/VBLK, 28 PDN, 29 REFP, 30 REFM, 31 CH_AGND, 32 CH_AVDD

## ULN2003-1
designator U?, comment ULN2003
达林顿驱动芯片; 版权归属: 源创客; BOM名称: 达林顿驱动芯片; 学习资源: www.ooocke.com
footprint DIP16-300 (19.3*7.6*3.8(长宽高）)
footprint SOP16_N (10.3*6.2*1.8mm（长宽高）)
footprint SOP16_L (10.3*6.2*1.8mm（长宽高）)
footprint SOP16_M (10.3*6.2*1.8mm（长宽高）)
part A pins: 1 IN1 (in), 8 GND, 9 VCC, 16 OUT1 (oc)
part B pins: 2 IN2 (in), 15 OUT2 (oc)
part C pins: 3 IN3 (in), 14 OUT3 (oc)
part D pins: 4 IN4 (in), 13 OUT4 (oc)
part E pins: 5 IN5 (in), 12 OUT5 (oc)
part F pins: 6 IN6 (in), 11 OUT6 (oc)
part G pins: 7 IN7 (in), 10 OUT7 (oc)

## ULN2003-2
designator U?, comment ULN2003
达林顿驱动芯片; 版权归属: 源创客; BOM名称: 达林顿驱动芯片; 学习资源: www.ooocke.com
footprint DIP16-300 (19.3*7.6*3.8(长宽高）)
footprint SOP16_N (10.3*6.2*1.8mm（长宽高）)
footprint SOP16_L (10.3*6.2*1.8mm（长宽高）)
footprint SOP16_M (10.3*6.2*1.8mm（长宽高）)
pins: 1 1B (in), 2 2B (in), 3 3B (in), 4 4B (in), 5 5B (in), 6 6B (in), 7 7B (in), 8 E, 9 COM, 10 7C (oc), 11 6C (oc), 12 5C (oc), 13 4C (oc), 14 3C (oc), 15 2C (oc), 16 1C (oc)

## W25Qxx
designator IC?
外置Flash; 版权归属: 源创客; BOM名称: 外置Flash; 学习资源: www.ooocke.com
footprint SOP8W_N (5.3*8.3*1.8mm（长宽高）)
footprint SOP8W_L (5.3*8.3*1.8mm（长宽高）)
footprint SOP8W_M (5.3*8.3*1.8mm（长宽高）)
pins: 1 ~{CS}, 2 DO, 3 ~{WP}, 4 GND, 5 DI, 6 CLK, 7 ~{HOLD}, 8 VCC

## WM8731
designator IC?
音频PCM编解码芯片; 版权归属: 源创客; BOM名称: 音频PCM编解码芯片; 学习资源: www.ooocke.com
footprint SSOP28_L (10.2*7.8*1.9mm(长宽高）)
footprint SSOP28_N (10.2*7.8*1.9mm(长宽高）)
footprint SSOP28_M (10.2*7.8*1.9mm(长宽高）)
pins: 1 DBVDD, 2 CLKOUT "DBVDD", 3 BCLK "DBVDD", 4 DACDAT "DBVDD", 5 DACLRC "DBVDD", 6 ADCDAT "DBVDD", 7 ADCLRC "DBVDD", 8 HPVDD "DBVDD", 9 LHPOUT "DBVDD", 10 RHPOUT "DBVDD", 11 HPGND "DBVDD", 12 LOUT "DBVDD", 13 ROUT "DBVDD", 14 AVDD "DBVDD", 15 AGND "DBVDD", 16 VMID "DBVDD", 17 MICBIAS "DBVDD", 18 MICIN "DBVDD", 19 RLNEIN "DBVDD", 20 LLINEIN "DBVDD", 21 MODE "DBVDD", 22 CSB "DBVDD", 23 SDIN "DBVDD", 24 SCLK "DBVDD", 25 XT/MCLK "DBVDD", 26 XTO "DBVDD", 27 DCVDD "DBVDD", 28 DGND "DBVDD"

## XF5152CE
designator IC?
语音识别合成芯片; BOM名称: 语音合成芯片; 版权归属: 源创客; 学习资源: www.ooocke.com
footprint LQFP64 10X10_N (64脚，体宽10x10mm，脚距0.5mm)
footprint LQFP64 10X10_M (64脚，体宽10x10mm，脚距0.5mm)
footprint LQFP64 10X10_L (64脚，体宽10x10mm，脚距0.5mm)
pins: 1 VDD12 "DBVDD", 2 UVCC "DBVDD", 3 RREF "DBVDD", 4 GND "DBVDD", 5 NC "DBVDD", 6 NC "DBVDD", 7 AVCC "DBVDD", 8 AO_P "DBVDD", 9 AO_N "DBVDD", 10 AGND "DBVDD", 11 VCM "DBVDD", 12 MIC_Bias "DBVDD", 13 MIC_N "DBVDD", 14 AGND "DBVDD", 15 MIC_P "DBVDD", 16 F_D0 "DBVDD", 17 AVCC "DBVDD", 18 VREF "DBVDD", 19 NC "DBVDD", 20 PWR_IN "DBVDD", 21 F_D1 "DBVDD", 22 VDD33_O "DBVDD", 23 VDD12_O "DBVDD", 24 AVDD12 "DBVDD", 25 GND "DBVDD", 26 XTALI "DBVDD", 27 XTALO "DBVDD", 28 RESRT "DBVDD", 29 A4 "DBVDD", 30 NC "DBVDD", 31 NC "DBVDD", 32 NC "DBVDD", 33 NC "DBVDD", 34 NC "DBVDD", 35 NC "DBVDD", 36 VDD33 "DBVDD", 37 GND "DBVDD", 38 NC "DBVDD", 39 RXD "DBVDD", 40 RDY "DBVDD", 41 TXD "DBVDD", 42 SPI_CLK "DBVDD", 43 SPI_SSEL "DBVDD", 44 SPI_SI "DBVDD", 45 SPI_SO "DBVDD", 46 VDD33 "DBVDD", 47 IIC_SCL "DBVDD", 48 IIC_SDA "DBVDD", 49 M_D2 "DBVDD", 50 F_D2 "DBVDD", 51 F_D3 "DBVDD", 52 GND "DBVDD", 53 A1 "DBVDD", 54 A2 "DBVDD", 55 BAUD2 "DBVDD", 56 BAUD1 "DBVDD", 57 M_D0 "DBVDD", 58 NC "DBVDD", 59 M_D3 "DBVDD", 60 M_D1 "DBVDD", 61 NC "DBVDD", 62 A3 "DBVDD", 63 NC "DBVDD", 64 GND "DBVDD"

## 模板
designator ?
版权归属: 源创客; 学习资源: www.ooocke.com